# EAGLE library part LMR14203 (library ti)
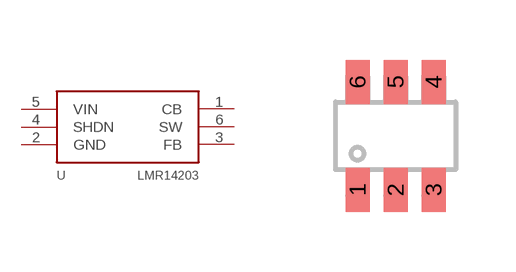
[diagram p0: symbol with the pads of SOT23-6; footprint SOT23-6]

Designator prefix U

## LMR14203  [SOT23-6]
1  CB  pas
2  GND  pwr
3  FB  in
4  SHDN  in
5  VIN  pwr
6  SW  out

## Footprint SOT23-6 (pad centres in mm)
smd 0.6 x 1.1: 1 -0.95,-1.35; 2 0,-1.35; 3 0.95,-1.35; 4 0.95,1.35; 5 0,1.35; 6 -0.95,1.35